# EAGLE library part MINIATX20P (library ads4)
Mini-ATX 20-pin connector
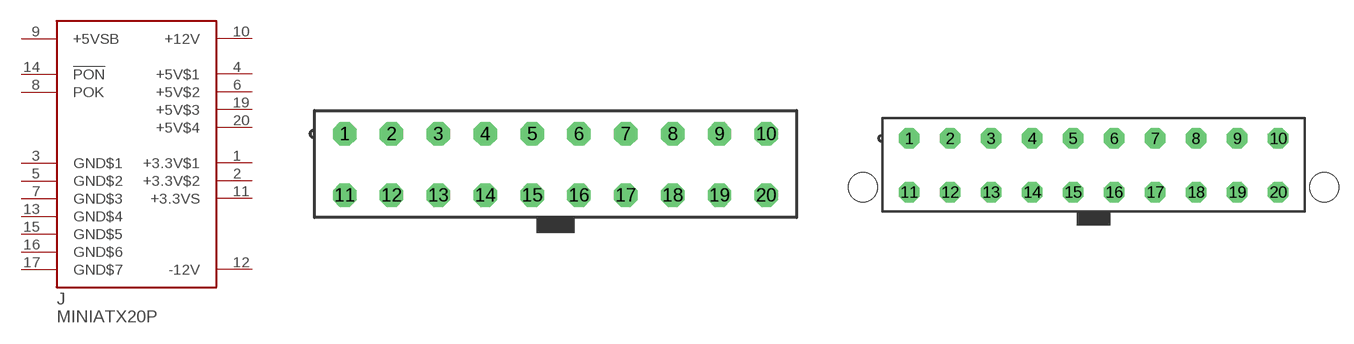
[diagram p27: symbol with the pads of MOLEX39281203; footprints MOLEX39281203, MOLEX5566]

Designator prefix J

## MINIATX20P  [MOLEX39281203]
1  +3.3V$1  pwr
2  +3.3V$2  pwr
3  GND$1  pwr
4  +5V$1  pwr
5  GND$2  pwr
6  +5V$2  pwr
7  GND$3  pwr
8  POK  out
9  +5VSB  pwr
10  +12V  pwr
11  +3.3VS  pwr
12  -12V  pwr
13  GND$4  pwr
14  !PON  in
15  GND$5  pwr
16  GND$6  pwr
17  GND$7  pwr
19  +5V$3  pwr
20  +5V$4  pwr

## MINIATX20PR  [MOLEX5566]
Pads as for MOLEX39281203

## Footprint MOLEX39281203 (pad centres in mm)
Molex 39-28-1203 20-pin 4.2mm connector, dual-row
drill 1.4 octagon: 1 -18.9,2.7; 2 -14.7,2.7; 3 -10.5,2.7; 4 -6.3,2.7; 5 -2.1,2.7; 6 2.1,2.7; 7 6.3,2.7; 8 10.5,2.7; 9 14.7,2.7; 10 18.9,2.7; 11 -18.9,-2.8; 12 -14.7,-2.8; 13 -10.5,-2.8; 14 -6.3,-2.8; 15 -2.1,-2.8; 16 2.1,-2.8; 17 6.3,-2.8; 18 10.5,-2.8; 19 14.7,-2.8; 20 18.9,-2.8

## Footprint MOLEX5566 (pad centres in mm)
ATX 20-pin header with board retention pins
drill 1.4 octagon: 1 -18.9,2.7; 2 -14.7,2.7; 3 -10.5,2.7; 4 -6.3,2.7; 5 -2.1,2.7; 6 2.1,2.7; 7 6.3,2.7; 8 10.5,2.7; 9 14.7,2.7; 10 18.9,2.7; 11 -18.9,-2.8; 12 -14.7,-2.8; 13 -10.5,-2.8; 14 -6.3,-2.8; 15 -2.1,-2.8; 16 2.1,-2.8; 17 6.3,-2.8; 18 10.5,-2.8; 19 14.7,-2.8; 20 18.9,-2.8
hole 3 at -23.6,-2.3
hole 3 at 23.6,-2.3